# EAGLE library part LMC662CN/NOPB (library ruark2)
SURFACE MOUNT DIP SOCKET FOR: LMC662CN/NOPB CMOS Amplifier 2 Circuit Push-Pull, Rail-to-Rail 8-PDIP | PURCHASE 110-87-308-41-105191
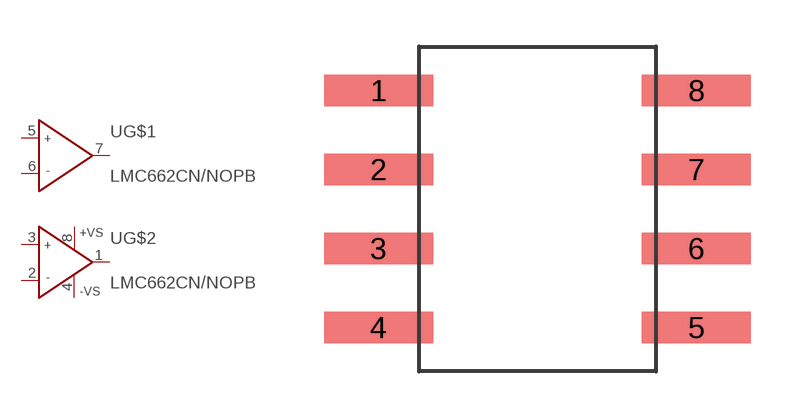
[diagram p131: symbol with the pads of 110-87-308-41-105191; footprint 110-87-308-41-105191]

Designator prefix U; gates G$1=OP G$2=OP+-

## LMC662CN/NOPB (PARTNO: LMC662CN/NOPB-ND)  [110-87-308-41-105191]
1  G$2:OUT  out
2  G$2:IN-  in
3  G$2:IN+  in
4  G$2:-VS  in
5  G$1:IN+  in
6  G$1:IN-  in
7  G$1:OUT  out
8  G$2:+VS  in

## Footprint 110-87-308-41-105191 (pad centres in mm)
smd 3.5 x 1: 1 -5.11,3.81; 2 -5.11,1.27; 3 -5.11,-1.27; 4 -5.11,-3.81; 5 5.11,-3.81; 6 5.11,-1.27; 7 5.11,1.27; 8 5.11,3.81